# EAGLE library part AS7C33128 (library MiniLA)
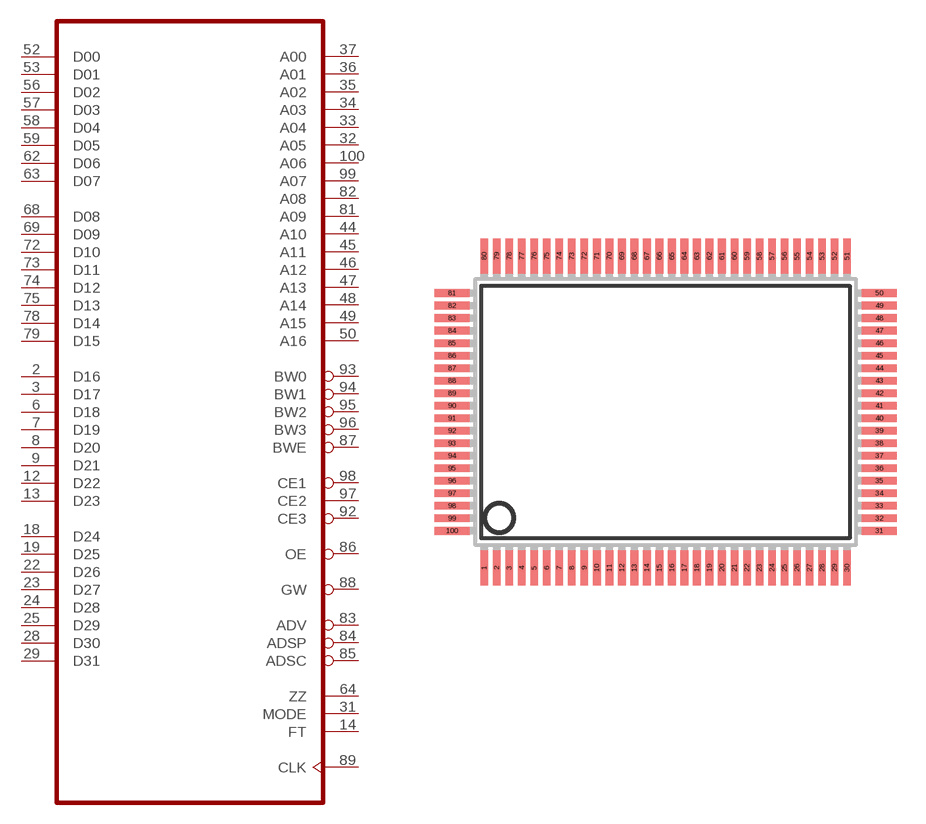
[diagram p4: symbol with the pads of QFP100; footprint QFP100]

Designator prefix IC

## AS7C33128PQFP100  [QFP100]
2  D16
3  D17
4  VCC0  pwr
5  GND  pwr
6  D18
7  D19
8  D20
9  D21
10  GND  pwr
11  VCC0  pwr
12  D22
13  D23
14  FT  in
15  VCC0  pwr
17  GND  pwr
18  D24
19  D25
20  VCC0  pwr
21  GND  pwr
22  D26
23  D27
24  D28
25  D29
26  GND  pwr
27  VCC0  pwr
28  D30
29  D31
31  MODE  in
32  A05
33  A04
34  A03
35  A02
36  A01
37  A00
39  GND  pwr
41  VCC0  pwr
44  A10
45  A11
46  A12
47  A13
48  A14
49  A15
50  A16
52  D00
53  D01
54  VCC0  pwr
55  GND  pwr
56  D02
57  D03
58  D04
59  D05
60  GND  pwr
61  VCC0  pwr
62  D06
63  D07
64  ZZ
65  VCC0  pwr
67  GND  pwr
68  D08
69  D09
70  VCC0  pwr
71  GND  pwr
72  D10
73  D11
74  D12
75  D13
76  GND  pwr
77  VCC0  pwr
78  D14
79  D15
81  A09
82  A08
83  ADV
84  ADSP
85  ADSC
86  OE
87  BWE
88  GW
89  CLK
90  GND  pwr
91  VCC0  pwr
92  CE3
93  BW0
94  BW1
95  BW2
96  BW3
97  CE2
98  CE1
99  A07
100  A06

## Footprint QFP100 (pad centres in mm)
smd 0.4 x 1.8: 1 -10.695,-6.83; 2 -10.045,-6.83; 3 -9.395,-6.83; 4 -8.745,-6.83; 5 -8.095,-6.83; 6 -7.445,-6.83; 7 -6.795,-6.83; 8 -6.145,-6.83; 9 -5.495,-6.83; 10 -4.845,-6.83; 11 -4.195,-6.83; 12 -3.545,-6.83; 13 -2.895,-6.83; 14 -2.245,-6.83; 15 -1.595,-6.83; 16 -0.945,-6.83; 17 -0.295,-6.83; 18 0.355,-6.83; 19 1.005,-6.83; 20 1.655,-6.83; 21 2.305,-6.83; 22 2.955,-6.83; 23 3.605,-6.83; 24 4.255,-6.83; 25 4.905,-6.83; 26 5.555,-6.83; 27 6.205,-6.83; 28 6.855,-6.83; 29 7.505,-6.83; 30 8.155,-6.83; 51 8.155,9.37; 52 7.505,9.37; 53 6.855,9.37; 54 6.205,9.37; 55 5.555,9.37; 56 4.905,9.37; 57 4.255,9.37; 58 3.605,9.37; 59 2.955,9.37; 60 2.305,9.37; 61 1.655,9.37; 62 1.005,9.37; 63 0.355,9.37; 64 -0.295,9.37; 65 -0.945,9.37; 66 -1.595,9.37; 67 -2.245,9.37; 68 -2.895,9.37; 69 -3.545,9.37; 70 -4.195,9.37; 71 -4.845,9.37; 72 -5.495,9.37; 73 -6.145,9.37; 74 -6.795,9.37; 75 -7.445,9.37; 76 -8.095,9.37; 77 -8.745,9.37; 78 -9.395,9.37; 79 -10.045,9.37; 80 -10.695,9.37
smd 1.8 x 0.4: 31 9.83,-4.905; 32 9.83,-4.255; 33 9.83,-3.605; 34 9.83,-2.955; 35 9.83,-2.305; 36 9.83,-1.655; 37 9.83,-1.005; 38 9.83,-0.355; 39 9.83,0.295; 40 9.83,0.945; 41 9.83,1.595; 42 9.83,2.245; 43 9.83,2.895; 44 9.83,3.545; 45 9.83,4.195; 46 9.83,4.845; 47 9.83,5.495; 48 9.83,6.145; 49 9.83,6.795; 50 9.83,7.445; 81 -12.37,7.445; 82 -12.37,6.795; 83 -12.37,6.145; 84 -12.37,5.495; 85 -12.37,4.845; 86 -12.37,4.195; 87 -12.37,3.545; 88 -12.37,2.895; 89 -12.37,2.245; 90 -12.37,1.595; 91 -12.37,0.945; 92 -12.37,0.295; 93 -12.37,-0.355; 94 -12.37,-1.005; 95 -12.37,-1.655; 96 -12.37,-2.305; 97 -12.37,-2.955; 98 -12.37,-3.605; 99 -12.37,-4.255; 100 -12.37,-4.905